# EAGLE library part 61901011021 (library Wire-to-Board (rev18a))
WR-WTB 2.54mm Right Angled Locking Header Bottom Locking, 10 Pins=>Code : Con_WTB_2.54_PCB_THT_61901011021 <http://katalog.we-online.de/media/thumbs2/eican/thb_Con_WTB_2.54_PCB_THT_6190xx11021_pf2.jpg> Details see: http://katalog.we-online.de/en/em/WTB_2_54_MALE_LEFT_ANGLED_LOCKING_HEADER_6190XX11021 Created 2014-06-05, Karrer Zheng 2014 (C) Würth Elektronik
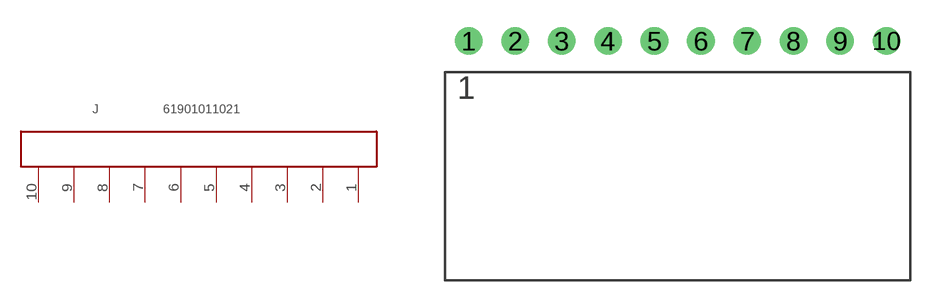
[diagram p10: symbol with the pads of 61901011021; footprint 61901011021]

Designator prefix J

## 61901011021  [61901011021]
1  1  pas
2  2  pas
3  3  pas
4  4  pas
5  5  pas
6  6  pas
7  7  pas
8  8  pas
9  9  pas
10  10  pas

## Footprint 61901011021 (pad centres in mm)
WR-WTB 2.54mm Right Angled Locking Header Bottom Locking, 10 Pins
drill 1: 1 -11.43,0; 2 -8.89,0; 3 -6.35,0; 4 -3.81,0; 5 -1.27,0; 6 1.27,0; 7 3.81,0; 8 6.35,0; 9 8.89,0; 10 11.43,0